# Altium schematic symbol library sn74lv1t125dbvr.SchLib: 1 symbol
Pins are listed as number, name and electrical type; pins without a type are passive.

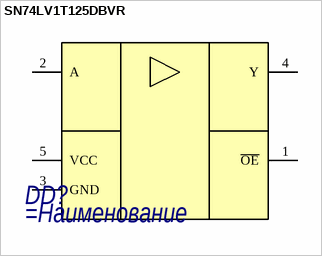
[diagram p0: symbol SN74LV1T125DBVR]

## SN74LV1T125DBVR
designator DD?
=Описание
pins: 1 ~{OE}, 2 A, 3 GND, 4 Y, 5 VCC